# Altium schematic symbol library ADuM3151.Schlib: 1 symbol
Pins are listed as number, name and electrical type; pins without a type are passive.

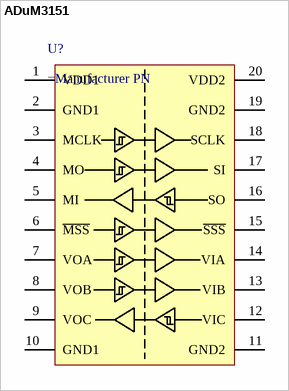
[diagram p0: symbol ADuM3151]

## ADuM3151
designator U?
Digital Isolator, SPI-bus
pins: 1 VDD1, 2 GND1, 3 MCLK, 4 MO, 5 MI, 6 ~{MSS}, 7 VOA, 8 VOB, 9 VOC, 10 GND1, 11 GND2, 12 VIC, 13 VIB, 14 VIA, 15 ~{SSS}, 16 SO, 17 SI, 18 SCLK, 19 GND2, 20 VDD2